# Altium schematic symbol library XC6222B331MR-G.SchLib: 1 symbol
Pins are listed as number, name and electrical type; pins without a type are passive.

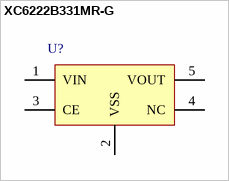
[diagram p0: symbol XC6222B331MR-G]

## XC6222B331MR-G
designator U?  (value not drawn)
pins: 1 VIN, 2 VSS, 3 CE, 4 NC, 5 VOUT